# EAGLE library part PA_XBEE_DCE (library PatternAgents-Interface)
PatternAgents XBEE DCE (Data Commuication Equipment) Interface Pattern This is the Symbol for a "slave", such as a Zigbee, or Wi-Fi Radio module that plugs into a socket on an embedded PC. Pin Signal Direction 1 3V3 IN-POWER 2 TXD OUT 3 RXD IN 4 ATTN Open-Drain 5 RESET Open-Drain 6 RSSI (RI) OUT 7 I2C1_SDA Open_Drain 8 I2C1_SCL Open_Drain 9 DTR/Sleep IN 10 GND IN-POWER 11 LINK (DSR) OUT 12 CTS OUT 13 STATUS OUT 14 AREF IN-Analog Reference Voltage 15 ASSOS OUT 16 RTS IN 17 SPI1_MISO OUT 18 SPI1_MOSI IN 19 SPI1_SCK IN 20 SPI1_SS IN A corresponding "master" socket would be a DTE (Data Terminal Equipment) type. Source LBR : http://www.patternagents.com Github : https://github.com/patternagents License : http://creativecommons.org/licenses/by-sa/4.0/ (Creative Commons 4.0) THIS SOFTWARE IS PROVIDED BY THE CONTRIBUTORS "AS IS" AND WITHOUT ANY EXPRESS OR IMPLIED WARRANTIES, INCLUDING, BUT NOT LIMITED TO, THE IMPLIED WARRANTIES OF MERCHANTABILITY AND FITNESS FOR A PARTICULAR PURPOSE ARE DISCLAIMED. IN NO EVENT SHALL THE COPYRIGHT OWNER OR CONTRIBUTORS BE LIABLE FOR ANY DIRECT, INDIRECT, INCIDENTAL, SPECIAL, EXEMPLARY, OR CONSEQUENTIAL DAMAGES (INCLUDING, BUT NOT LIMITED TO, PROCUREMENT OF SUBSTITUTE GOODS OR SERVICES; LOSS OF USE, DATA, OR PROFITS; OR BUSINESS INTERRUPTION) HOWEVER CAUSED AND ON ANY THEORY OF LIABILITY, WHETHER IN CONTRACT, STRICT LIABILITY, OR TORT (INCLUDING NEGLIGENCE OR OTHERWISE) ARISING IN ANY WAY OUT OF THE USE OF THIS SOFTWARE, EVEN IF ADVISED OF THE POSSIBILITY OF SUCH DAMAGE.
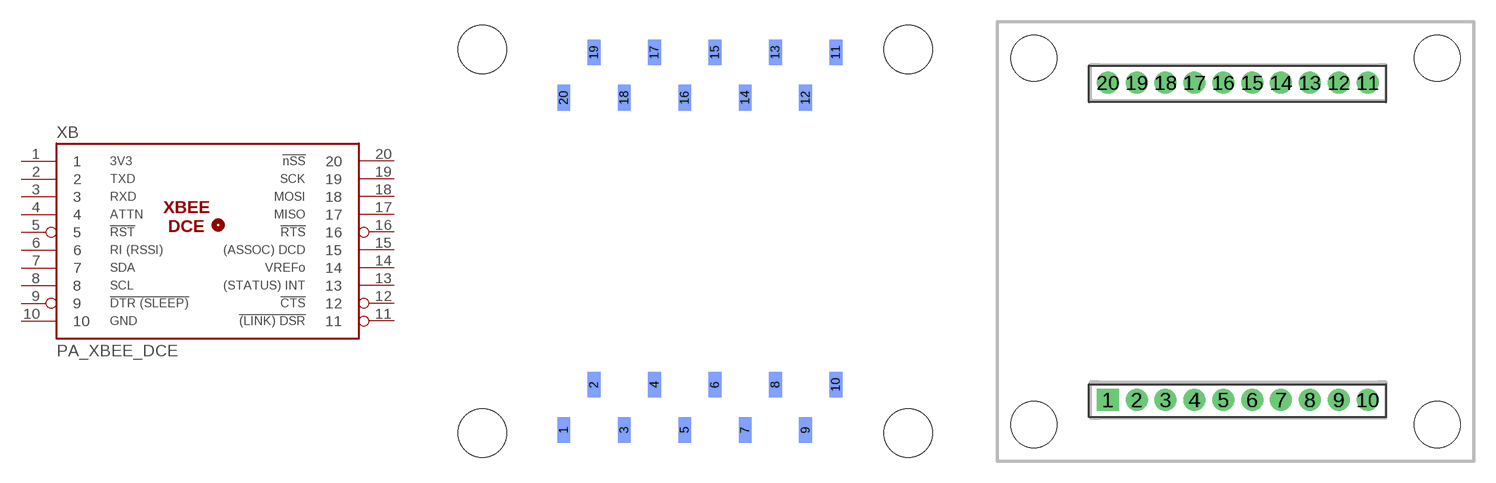
[diagram p20: symbol with the pads of PA_XBEE_SMD_BOT; footprints PA_XBEE_SMD_BOT, PA_XBEE_PTH]

Designator prefix XB

## PA_XBEE_DCE-BOT  [PA_XBEE_SMD_BOT]
1  1  pwr
2  2  in
3  3  in
4  4
5  5  oc
6  6  out
7  7
8  8
9  9  in
10  10  pwr
11  11  out
12  12  out
13  13  out
14  14  out
15  15  out
16  16  in
17  17  out
18  18  in
19  19  in
20  20  in

## PA_XBEE_DCE-PTH  [PA_XBEE_PTH]
Pads as for PA_XBEE_SMD_BOT

## PA_XBEE_DCE-TOP  [PA_XBEE_SMD_TOP]
Pads as for PA_XBEE_SMD_BOT

## Footprint PA_XBEE_SMD_BOT (pad centres in mm)
PatternAgents XBEE Interface Pattern Source LBR : http://www.patternagents.com Github : https://github.com/patternagents License : http://creativecommons.org/licenses/by-sa/4.0/ (Creative Commons 4.0) THIS SOFTWARE IS PROVIDED BY THE CONTRIBUTORS "AS IS" AND WITHOUT ANY EXPRESS OR IMPLIED WARRANTIES, INCLUDING, BUT NOT LIMITED TO, THE IMPLIED WARRANTIES OF MERCHANTABILITY AND FITNESS FOR A PARTICULAR PURPOSE ARE DISCLAIMED. IN NO EVENT SHALL THE COPYRIGHT OWNER OR CONTRIBUTORS BE LIABLE FOR ANY DIRECT, INDIRECT, INCIDENTAL, SPECIAL, EXEMPLARY, OR CONSEQUENTIAL DAMAGES (INCLUDING, BUT NOT LIMITED TO, PROCUREMENT OF SUBSTITUTE GOODS OR SERVICES; LOSS OF USE, DATA, OR PROFITS; OR BUSINESS INTERRUPTION) HOWEVER CAUSED AND ON ANY THEORY OF LIABILITY, WHETHER IN CONTRACT, STRICT LIABILITY, OR TORT (INCLUDING NEGLIGENCE OR OTHERWISE) ARISING IN ANY WAY OUT OF THE USE OF THIS SOFTWARE, EVEN IF ADVISED OF THE POSSIBILITY OF SUCH DAMAGE.
smd 0.85 x 1.7 bottom: 1 7.686,2.74; 2 9.686,5.74; 3 11.686,2.74; 4 13.686,5.74; 5 15.686,2.74; 6 17.686,5.74; 7 19.686,2.74; 8 21.686,5.74; 9 23.686,2.74; 10 25.686,5.74; 11 25.686,27.74; 12 23.686,24.74; 13 21.686,27.74; 14 19.686,24.74; 15 17.686,27.74; 16 15.686,24.74; 17 13.686,27.74; 18 11.686,24.74; 19 9.686,27.74; 20 7.686,24.74
hole 3.2 at 2.286,2.54
hole 3.2 at 30.48,2.54
hole 3.2 at 30.48,27.94
hole 3.2 at 2.286,27.94

## Footprint PA_XBEE_PTH (pad centres in mm)
drill 0.8 pad 1.524 square: 1 7.661,4.24
drill 0.8 pad 1.524: 2 9.661,4.24; 3 11.661,4.24; 4 13.661,4.24; 5 15.661,4.24; 6 17.661,4.24; 7 19.661,4.24; 8 21.661,4.24; 9 23.661,4.24; 10 25.661,4.24; 11 25.661,26.24; 12 23.661,26.24; 13 21.661,26.24; 14 19.661,26.24; 15 17.661,26.24; 16 15.661,26.24; 17 13.661,26.24; 18 11.661,26.24; 19 9.661,26.24; 20 7.661,26.24
hole 3.2 at 2.54,2.54
hole 3.2 at 30.48,2.54
hole 3.2 at 30.48,27.94
hole 3.2 at 2.54,27.94

## Footprint PA_XBEE_SMD_TOP (pad centres in mm)
PatternAgents XBEE Interface Pattern Source LBR : http://www.patternagents.com Github : https://github.com/patternagents License : http://creativecommons.org/licenses/by-sa/4.0/ (Creative Commons 4.0) THIS SOFTWARE IS PROVIDED BY THE CONTRIBUTORS "AS IS" AND WITHOUT ANY EXPRESS OR IMPLIED WARRANTIES, INCLUDING, BUT NOT LIMITED TO, THE IMPLIED WARRANTIES OF MERCHANTABILITY AND FITNESS FOR A PARTICULAR PURPOSE ARE DISCLAIMED. IN NO EVENT SHALL THE COPYRIGHT OWNER OR CONTRIBUTORS BE LIABLE FOR ANY DIRECT, INDIRECT, INCIDENTAL, SPECIAL, EXEMPLARY, OR CONSEQUENTIAL DAMAGES (INCLUDING, BUT NOT LIMITED TO, PROCUREMENT OF SUBSTITUTE GOODS OR SERVICES; LOSS OF USE, DATA, OR PROFITS; OR BUSINESS INTERRUPTION) HOWEVER CAUSED AND ON ANY THEORY OF LIABILITY, WHETHER IN CONTRACT, STRICT LIABILITY, OR TORT (INCLUDING NEGLIGENCE OR OTHERWISE) ARISING IN ANY WAY OUT OF THE USE OF THIS SOFTWARE, EVEN IF ADVISED OF THE POSSIBILITY OF SUCH DAMAGE.
smd 0.85 x 1.7: 1 7.686,5.74; 2 9.686,2.74; 3 11.686,5.74; 4 13.686,2.74; 5 15.686,5.74; 6 17.686,2.74; 7 19.686,5.74; 8 21.686,2.74; 9 23.686,5.74; 10 25.686,2.74; 11 25.686,24.74; 12 23.686,27.74; 13 21.686,24.74; 14 19.686,27.74; 15 17.686,24.74; 16 15.686,27.74; 17 13.686,24.74; 18 11.686,27.74; 19 9.686,24.74; 20 7.686,27.74
hole 3.2 at 2.54,2.54
hole 3.2 at 30.48,2.54
hole 3.2 at 30.48,27.94
hole 3.2 at 2.54,27.94